# EAGLE library part -LCD2X8 (library tango)
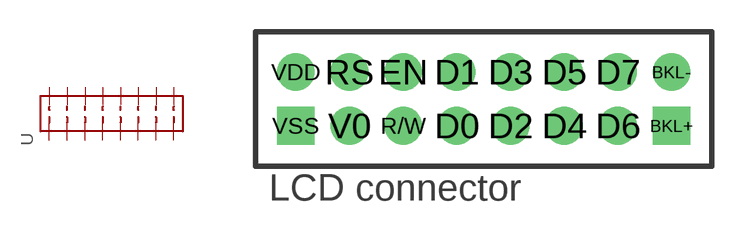
[diagram p19: symbol with the pads of CON16LCD; footprint CON16LCD]

Designator prefix -

## -LCD2X8  [CON16LCD]
BKL+  15  pas
BKL-  16  pas
D0  7  pas
D1  8  pas
D2  9  pas
D3  10  pas
D4  11  pas
D5  12  pas
D6  13  pas
D7  14  pas
EN  6  pas
R/W  5  pas
RS  4  pas
V0  3  pas
VDD  2  pas
VSS  1  pas

## Footprint CON16LCD (pad centres in mm)
drill 1 pad 1.778 square: BKL+ 8.89,-1.27; VSS -8.89,-1.27
drill 1 pad 1.778: BKL- 8.89,1.27; D0 -1.27,-1.27; D1 -1.27,1.27; D2 1.27,-1.27; D3 1.27,1.27; D4 3.81,-1.27; D5 3.81,1.27; D6 6.35,-1.27; D7 6.35,1.27; EN -3.81,1.27; R/W -3.81,-1.27; RS -6.35,1.27; V0 -6.35,-1.27; VDD -8.89,1.27